# Altium footprint library 2809Control.pcblib: 31 footprints (part 1 of 2)
Each footprint in its own frame and in the unit in brackets; x right, y up, seen from the top. Pads: shape width x height; smd on the part's side, far side on the other; paste and mask are expansions set on the pad; w line width, h text height; cw(c..) or ccw(c..) is an arc to the next point about the centre after c.
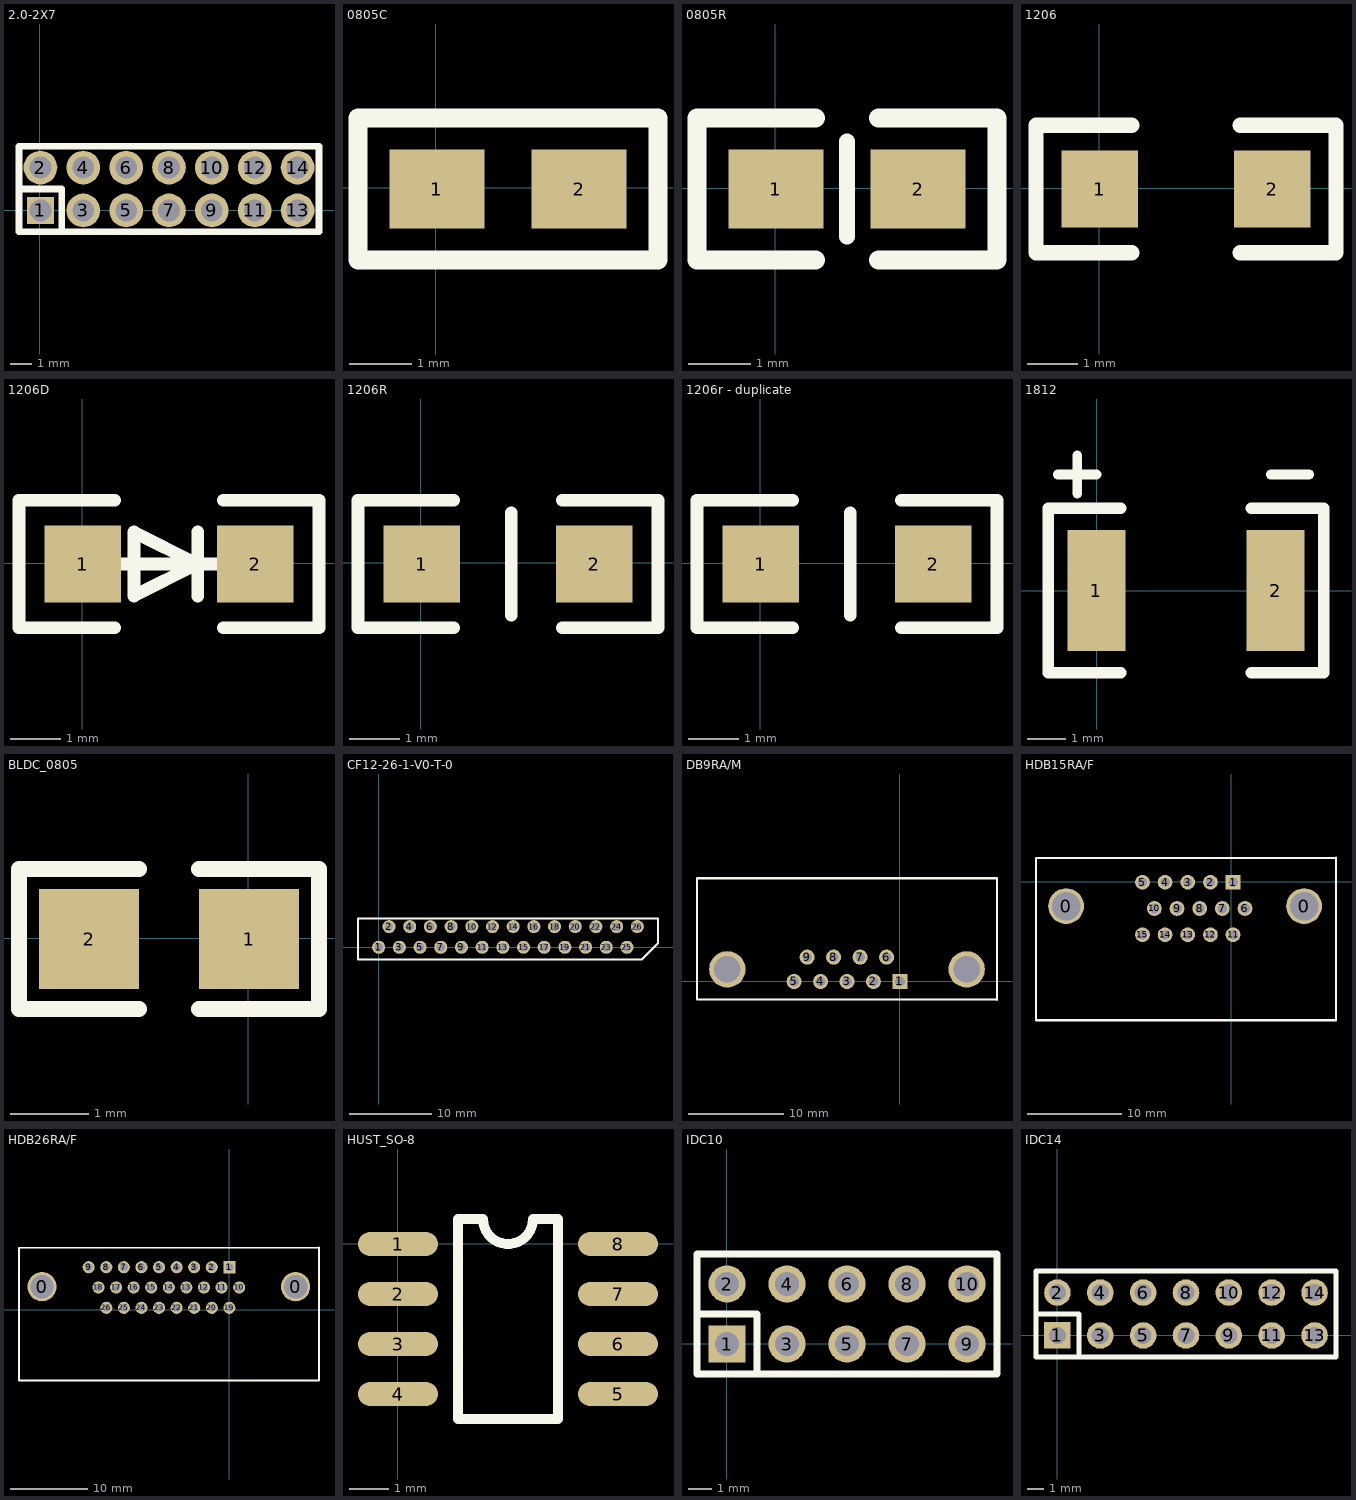
[diagram p0: the footprints below, top view; thin cyan lines are the x and y axes]

## 2.0-2X7 [mil]
pads (14):
  rect 50x50 hole 40: 1(0.88,-0.71)
  round 62 hole 40: 2(0.88,78.03) 3(79.62,-0.71) 4(79.62,78.03) 5(158.36,-0.71) 6(158.36,78.03) 7(237.1,-0.71) 8(237.1,78.03) 9(315.84,-0.71) 10(315.84,78.03) 11(394.58,-0.71) 12(394.58,78.03) 13(473.32,-0.71) 14(473.32,78.03)
TopOverlay:
  lines w12: -38.49,38.66 40.25,38.66 40.25,-40.08 ; -38.49,-40.08 512.69,-40.08 512.69,117.4 -38.49,117.4 -38.49,-40.08

## 0805C [mil]
pads (2):
  rect 60x50 smd: 1(0.83,-0.81) 2(90.83,-0.81)
TopOverlay:
  lines w12: -49.17,-45.81 65.83,-45.81 140.83,-45.81 140.83,44.19 65.83,44.19 -49.17,44.19 -49.17,-45.81

## 0805R [mil]
pads (2):
  rect 60x50 smd: 1(0.43,-0.4) 2(90.43,-0.4)
TopOverlay:
  lines w10: 45.43,-30.4 45.43,29.6
  lines w12: 25.43,-45.4 -49.57,-45.4 -49.57,44.6 25.43,44.6 ; 65.43,-45.4 140.43,-45.4 140.43,44.6 65.43,44.6

## 1206 [mil]
pads (2):
  rect 60x60 smd: 1(0.41,-0.41) 2(135.41,-0.41)
TopOverlay:
  lines w12: 25.41,-50.41 -49.59,-50.41 -49.59,49.59 25.41,49.59 ; 110.41,-50.41 185.41,-50.41 185.41,49.59 110.41,49.59

## 1206D [mil]
pads (2):
  rect 60x60 smd: 1(0.43,-0.39) 2(135.43,-0.39)
TopOverlay:
  lines w10: 25.43,-50.39 -49.57,-50.39 -49.57,49.61 25.43,49.61 ; 25.43,-0.39 105.43,-0.39 ; 90.43,-25.39 90.43,24.61 ; 110.43,-50.39 185.43,-50.39 185.43,49.61 110.43,49.61 ; 40.43,-25.39 90.43,-0.39 40.43,24.61 40.43,-25.39

## 1206R [mil]
pads (2):
  rect 60x60 smd: 1(0.83,-0.81) 2(135.83,-0.81)
TopOverlay:
  lines w10: 25.83,-50.81 -49.17,-50.81 -49.17,49.19 25.83,49.19 ; 70.83,-40.81 70.83,39.19 ; 110.83,-50.81 185.83,-50.81 185.83,49.19 110.83,49.19

## 1206r - duplicate [mil]
pads (2):
  rect 60x60 smd: 1(0.42,-0.4) 2(135.42,-0.4)
TopOverlay:
  lines w10: 25.42,-50.4 -49.58,-50.4 -49.58,49.6 25.42,49.6 ; 70.42,-40.4 70.42,39.6 ; 110.42,-50.4 185.42,-50.4 185.42,49.6 110.42,49.6

## 1812 [mil]
pads (2):
  rect 60x125 smd: 1(-0.23,0.25) 2(184.77,0.25)
TopOverlay:
  lines w10: -40.23,120.25 -0.23,120.25 ; -20.23,100.25 -20.23,140.25 ; 179.77,120.25 219.77,120.25
  lines w12: 24.77,-84.75 -50.23,-84.75 -50.23,85.25 24.77,85.25 ; 159.77,-84.75 234.77,-84.75 234.77,85.25 159.77,85.25

## BLDC_0805 [mil]
pads (2):
  rect 50x50 smd: 1(0.41,-0.41) 2(-79.59,-0.41)
TopOverlay:
  lines w8: -54.59,-35.41 -114.59,-35.41 -114.59,34.59 -54.59,34.59 ; -24.59,-35.41 35.41,-35.41 35.41,34.59 -24.59,34.59

## CF12-26-1-V0-T-0 [mil]
pads (26):
  round 62 hole 40: 1(0.15,-0.49) 2(49.36,97.94) 3(98.58,-0.49) 4(147.79,97.94) 5(197,-0.49) 6(246.21,97.94) 7(295.43,-0.49) 8(344.64,97.94) 9(393.85,-0.49) 10(443.06,97.94) 11(492.28,-0.49) 12(541.49,97.94) 13(590.7,-0.49) 14(639.91,97.94) 15(689.13,-0.49) 16(738.34,97.94) 17(787.55,-0.49) 18(836.76,97.94) 19(885.98,-0.49) 20(935.19,97.94) 21(984.4,-0.49) 22(1033.62,97.94) 23(1082.83,-0.49) 24(1132.04,97.94) 25(1181.25,-0.49) 26(1230.47,97.94)
TopOverlay:
  lines w9.84: -98.27,-59.54 -98.27,137.31 1328.89,137.31 1328.89,19.2 1250.15,-59.54 -98.27,-59.54

## DB9RA/M [mil]
pads (11):
  rect 62x62 hole 40: 1(0.04,-0.82)
  round 62 hole 40: 2(-108.96,-0.82) 3(-217.96,-0.82) 4(-326.96,-0.82) 5(-435.96,-0.82) 6(-54.96,99.18) 7(-163.96,99.18) 8(-272.96,99.18) 9(-381.96,99.18)
  round 150 hole 110: ""(-710.96,49.18) ""(275.04,49.18)
TopOverlay:
  lines w8: -835.96,424.18 -835.96,-75.82 400.04,-75.82
  lines w10: -835.96,424.18 400.04,424.18 400.04,-75.82

## HDB15RA/F [mil]
pads (17):
  round 150 hole 120: 0(-691.65,-102.86) 0(306.15,-102.86)
  rect 62x62 hole 40: 1(8.36,-2.86)
  round 62 hole 40: 2(-86.64,-2.86) 3(-181.65,-2.86) 4(-276.65,-2.86) 5(-371.65,-2.86) 6(58.35,-112.86) 7(-36.65,-112.86) 8(-131.65,-112.86) 9(-226.65,-112.86) 10(-321.65,-112.86) 11(8.36,-222.86) 12(-86.64,-222.86) 13(-181.65,-222.86) 14(-276.65,-222.86) 15(-371.65,-222.86)
TopOverlay:
  lines w8: -817.99,-580.81 -817.99,99.19 440.01,99.19
  lines w10: -817.99,-580.81 440.01,-580.81 440.01,99.19

## HDB26RA/F [mil]
pads (28):
  round 150 hole 120: 0(-960.62,119.19) 0(339.38,119.19)
  rect 62x62 hole 40: 1(-0.15,218.99)
  round 62 hole 40: 2(-90.31,218.99) 3(-180.47,218.99) 4(-270.62,218.99) 5(-360.78,218.99) 6(-450.94,218.99) 7(-541.09,218.99) 8(-631.25,218.99) 9(-721.41,218.99) 10(50.01,115.25) 11(-40.15,115.25) 12(-130.31,115.25) 13(-220.47,115.25) 14(-310.62,115.25) 15(-400.78,115.25) 16(-490.94,115.25) 17(-581.09,115.25) 18(-671.25,115.25) 19(0.01,11) 20(-90.15,11) 21(-180.31,11) 22(-270.46,11) 23(-360.62,11) 24(-450.78,11) 25(-540.94,11) 26(-631.09,11)
TopOverlay:
  lines w8: -1078.62,-360.81 -1078.62,319.19 459.38,319.19
  lines w10: -1078.62,-360.81 459.38,-360.81 459.38,319.19

## HUST_SO-8 [mil]
pads (8):
  oval 80x24 smd: 1(0.41,-0.41) 2(0.41,-50.41) 3(0.41,-100.41) 4(0.41,-150.41) 5(220.41,-150.41) 6(220.41,-100.41) 7(220.41,-50.41) 8(220.41,-0.41)
TopOverlay:
  lines w10: 60.41,-175.41 60.41,24.59 85.41,24.59 ccw(c110.41,24.59) 135.41,24.59 160.41,24.59 160.41,-175.41 60.41,-175.41

## IDC10 [mil]
pads (10):
  rect 62x62 hole 40: 1(0.82,-0.82)
  round 62 hole 40: 2(0.82,99.18) 3(100.82,-0.82) 4(100.82,99.18) 5(200.82,-0.82) 6(200.82,99.18) 7(300.82,-0.82) 8(300.82,99.18) 9(400.82,-0.82) 10(400.82,99.18)
TopOverlay:
  lines w12: -49.18,49.18 50.82,49.18 50.82,-50.82 ; -49.18,-50.82 450.82,-50.82 450.82,149.18 -49.18,149.18 -49.18,-50.82

## IDC14 [mil]
pads (14):
  rect 62x62 hole 40: 1(0,-0.82)
  round 62 hole 40: 2(0,99.18) 3(100,-0.82) 4(100,99.18) 5(200,-0.82) 6(200,99.18) 7(300,-0.82) 8(300,99.18) 9(400,-0.82) 10(400,99.18) 11(500,-0.82) 12(500,99.18) 13(600,-0.82) 14(600,99.18)
TopOverlay:
  lines w12: -50,49.18 50,49.18 50,-50.82 ; -50,-50.82 -50,149.18 650,149.18 650,-50.82 -50,-50.82